# EAGLE library part MAX2634 (library max2634)
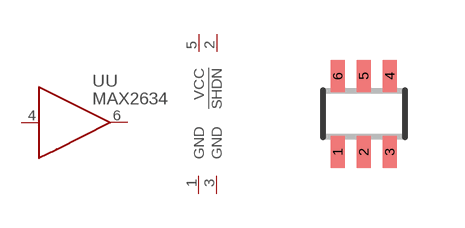
[diagram p0: symbol with the pads of SC70-6; footprint SC70-6]

Designator prefix -; gates U=RFAMP P=PWR

## MAX2634  [SC70-6]
1  P:GND  pwr
2  P:!SHDN  in
3  P:GND  pwr
4  U:IN  in
5  P:VCC  pwr
6  U:OUT  out

## Footprint SC70-6 (pad centres in mm)
6-Lead Thin Shrink Small Outline Transistor Package SC70 Source: http://www.analog.com/static/imported-files/data_sheets/ADA4853-1_4853-2_4853-3.pdf
smd 0.35 x 0.8: 1 -0.65,-0.95; 2 0,-0.95; 3 0.65,-0.95; 4 0.65,0.95; 5 0,0.95; 6 -0.65,0.95